# Altium schematic symbol library SCH - ARM CORTEX - NXP LPC8N04FHI24.SchLib: 1 symbol
Pins are listed as number, name and electrical type; pins without a type are passive.

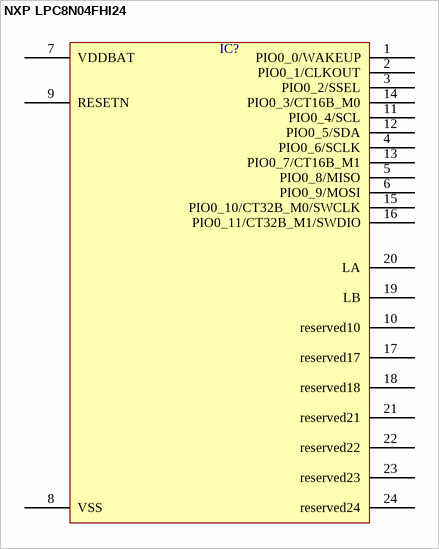
[diagram p0: symbol NXP LPC8N04FHI24]

## NXP LPC8N04FHI24
designator IC?  (value not drawn)
pins: 1 PIO0_0/WAKEUP, 2 PIO0_1/CLKOUT, 3 PIO0_2/SSEL, 4 PIO0_6/SCLK, 5 PIO0_8/MISO, 6 PIO0_9/MOSI, 7 VDDBAT, 8 VSS, 9 RESETN, 10 reserved10, 11 PIO0_4/SCL, 12 PIO0_5/SDA, 13 PIO0_7/CT16B_M1, 14 PIO0_3/CT16B_M0, 15 PIO0_10/CT32B_M0/SWCLK, 16 PIO0_11/CT32B_M1/SWDIO, 17 reserved17, 18 reserved18, 19 LB, 20 LA, 21 reserved21, 22 reserved22, 23 reserved23, 24 reserved24